# EAGLE library part MC14094B (library jason_eagle6)
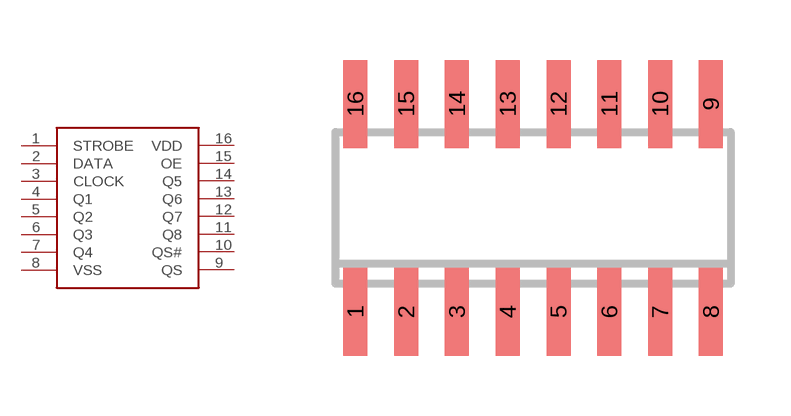
[diagram p7: symbol with the pads of SO16; footprint SO16]

Designator prefix -

## MC14094B  [SO16]
1  STROBE
2  DATA
3  CLOCK
4  Q1
5  Q2
6  Q3
7  Q4
8  VSS  pwr
9  QS
10  QS#
11  Q8
12  Q7
13  Q6
14  Q5
15  OE
16  VDD  pwr

## Footprint SO16 (pad centres in mm)
SMALL OUTLINE INTEGRATED CIRCUIT body 3.9 mm/JEDEC MS-012AC
smd 0.6 x 2.2: 1 -4.445,-2.6; 2 -3.175,-2.6; 3 -1.905,-2.6; 4 -0.635,-2.6; 5 0.635,-2.6; 6 1.905,-2.6; 7 3.175,-2.6; 8 4.445,-2.6; 9 4.445,2.6; 10 3.175,2.6; 11 1.905,2.6; 12 0.635,2.6; 13 -0.635,2.6; 14 -1.905,2.6; 15 -3.175,2.6; 16 -4.445,2.6